# Altium schematic symbol library NCP1117ST33T3G.SchLib: 1 symbol
Pins are listed as number, name and electrical type; pins without a type are passive.

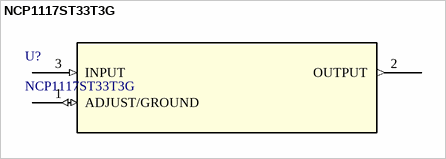
[diagram p0: symbol NCP1117ST33T3G]

## NCP1117ST33T3G
designator U?
Description; Manufacturer_Name: onsemi; Copyright: Copyright (C) 2026 Ultra Librarian. All rights reserved.; Manufacturer_Part_Number: NCP1117ST33T3G; RefDes: RefDes; Type: Type
footprint SOT223-3_ONS
pins: 1 ADJUST/GROUND (io), 2 OUTPUT (out), 3 INPUT (in)